# Altium schematic symbol library BTA10-600BWRG.SchLib: 1 symbol
Pins are listed as number, name and electrical type; pins without a type are passive.

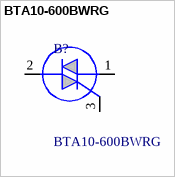
[diagram p0: symbol BTA10-600BWRG]

## BTA10-600BWRG
designator B?
TRIAC Alternistor - Snubberless 600 V 10 A Through Hole TO-220; Manufacturer_Name: STMicroelectronics; Geometry.Height: 4.6mm; Mouser Part Number: 511-BTA10-600BW; Mouser Price/Stock: https://www.mouser.co.uk/ProductDetail/STMicroelectronics/BTA10-600BWRG?qs=%2Fa2FmOVcLL9HVUO2jWvyeg%3D%3D; Manufacturer_Part_Number: BTA10-600BWRG; Datasheet Link: http://www.st.com/web/en/resource/technical/document/datasheet/CD00004894.pdf
footprint TO255P460X1020X2005-3P
pins: 1 MT1, 2 MT2, 3 G